# Altium footprint library TIDA-01415.PcbLib: 34 footprints (part 1 of 3)
Each footprint in its own frame and in the unit in brackets; x right, y up, seen from the top. Pads: shape width x height; smd on the part's side, far side on the other; paste and mask are expansions set on the pad; w line width, h text height; cw(c..) or ccw(c..) is an arc to the next point about the centre after c.
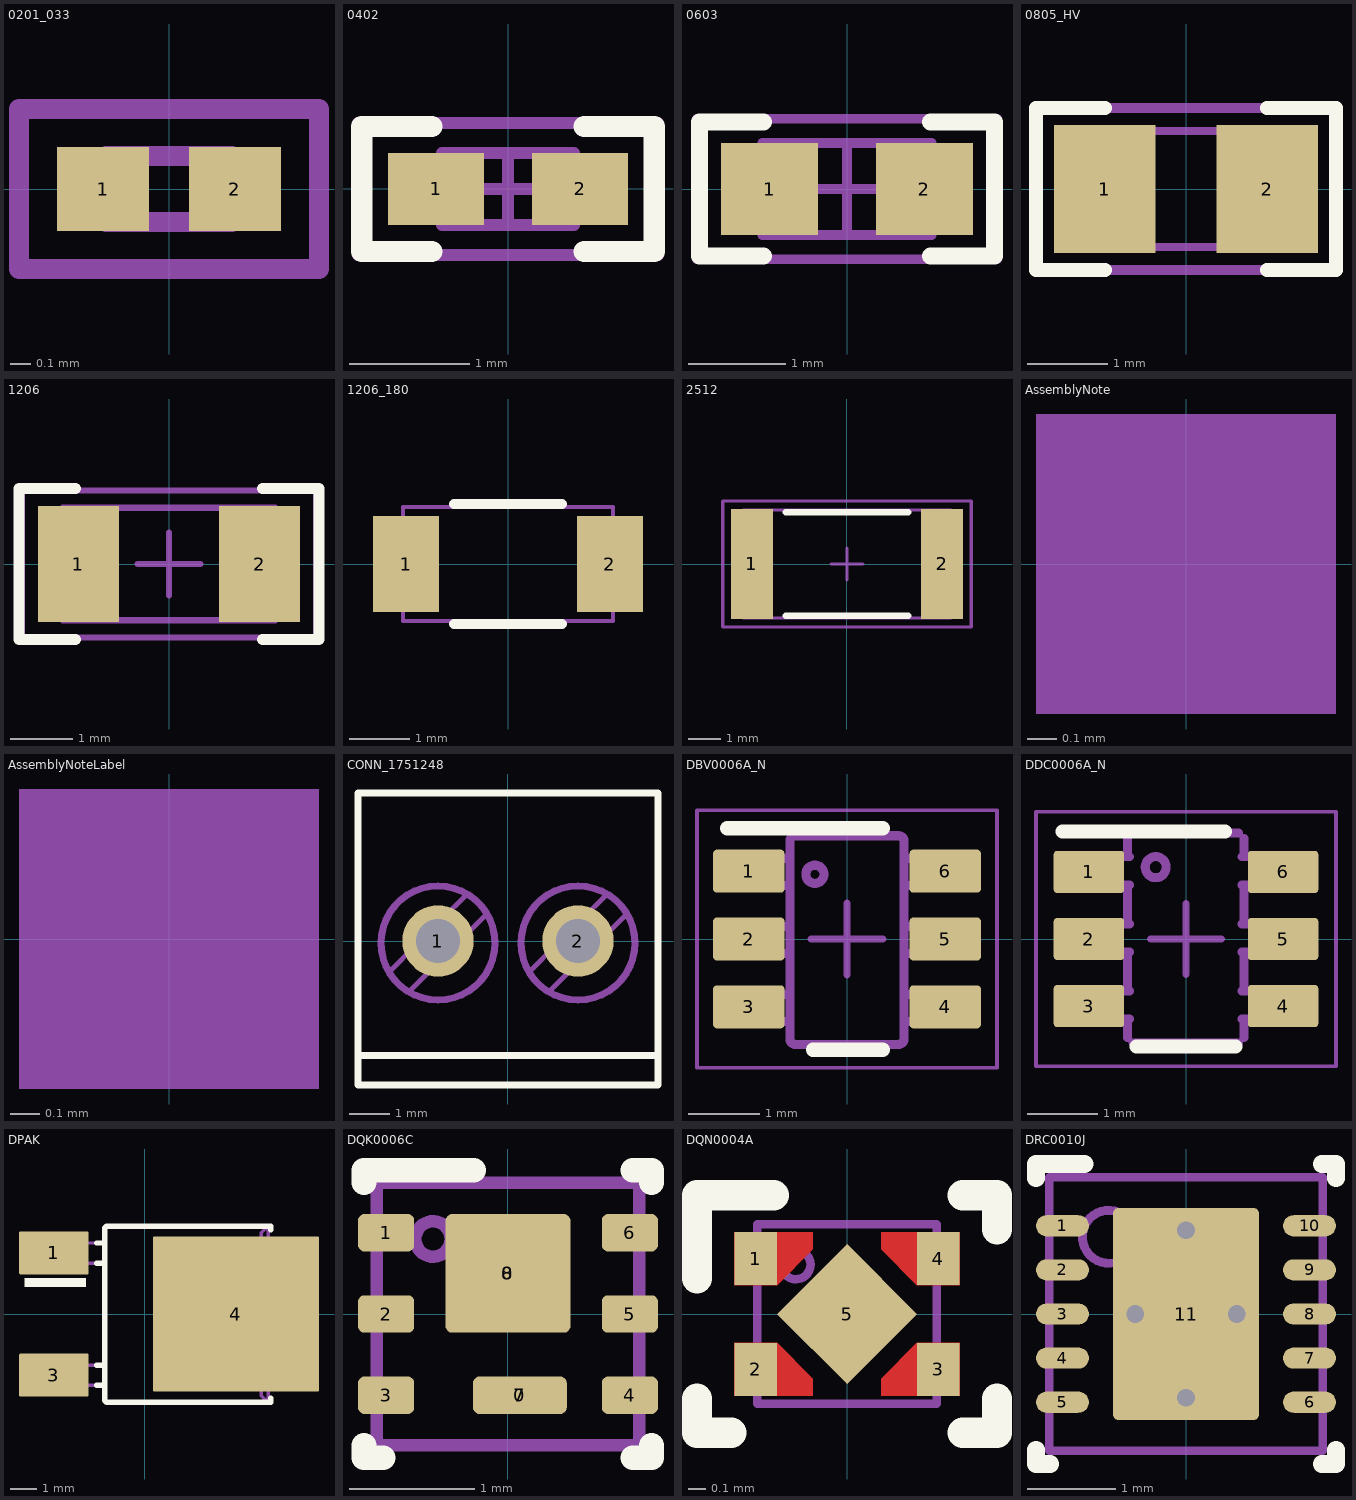
[diagram p0: the footprints below, top view; thin cyan lines are the x and y axes]

## 0201_033 [mm] "SMD, 2-Leads, Height 0.33mm"
height 0.33
pads (2):
  rect 0.46x0.42 smd mask+0.048: 1(-0.33,0) 2(0.33,0)
Mechanical 5:
  lines w0.1: -0.75,-0.4 -0.75,0.4 0.75,0.4 0.75,-0.4 -0.75,-0.4
  text ".Designator" at 2.339,0.814 h0.76
Mechanical 13:
  lines w0.1: -0.215,-0.165 -0.215,0.165 ; 0.215,-0.165 0.215,0.165 ; -0.315,-0.165 0.315,-0.165 0.315,0.165 -0.315,0.165 -0.315,-0.165
3D body: height 0.33, standoff 0, extent 0.216,-0.164 0.314,0.164
3D body: height 0.33, standoff 0, extent -0.214,-0.164 0.214,0.164
3D body: height 0.33, standoff 0, extent -0.314,-0.164 -0.216,0.164

## 0402 [mm] "0402 from SM-752 data"
height 0.6
pads (2):
  rect 0.8x0.6 smd: 1(-0.6,0) 2(0.6,0)
Top Overlay:
  lines w0.178: -0.635,-0.521 -1.219,-0.521 -1.219,0.521 -0.635,0.521 ; 0.635,-0.521 1.219,-0.521 1.219,0.521 0.635,0.521
Mechanical 5:
  lines w0.1: -1.25,-0.55 -1.25,0.55 1.25,0.55 1.25,-0.55 -1.25,-0.55
  text ".Designator" at 1.016,0.381 h0.76
Mechanical 13:
  lines w0.1: -0.35,-0.3 -0.35,0.3 ; 0.35,-0.3 0.35,0.3 ; -0.55,-0.3 0.55,-0.3 0.55,0.3 -0.55,0.3 -0.55,-0.3
Mechanical 15:
  lines w0.1: -0.3,0 0.3,0 ; 0,-0.3 0,0.3 ; -1.25,-0.55 1.25,-0.55 1.25,0.55 -1.25,0.55 -1.25,-0.55
3D body: height 0.6, standoff 0, extent 0.351,-0.299 0.549,0.299
3D body: height 0.6, standoff 0, extent -0.349,-0.299 0.349,0.299
3D body: height 0.6, standoff 0, extent -0.549,-0.299 -0.351,0.299

## 0603 [mm] "0603 from SM-752 data"
height 1
pads (2):
  rect 1x0.95 smd: 1(-0.8,0) 2(0.8,0)
Top Overlay:
  lines w0.178: -0.864,-0.691 -1.524,-0.691 -1.524,0.693 -0.864,0.693 ; 0.864,-0.691 1.524,-0.691 1.524,0.693 0.864,0.693
Mechanical 5:
  lines w0.1: -1.55,-0.725 1.55,-0.725 1.55,0.725 -1.55,0.725 -1.55,-0.725
  text ".Designator" at 0.9,0.37 h0.76
Mechanical 13:
  lines w0.1: -0.55,-0.475 -0.55,0.475 ; 0.55,-0.475 0.55,0.475 ; -0.875,-0.475 -0.875,0.475 0.875,0.475 0.875,-0.475 -0.875,-0.475
Mechanical 15:
  lines w0.1: -0.475,0 0.475,0 ; 0,-0.475 0,0.475 ; -1.55,-0.725 -1.55,0.725 1.55,0.725 1.55,-0.725 -1.55,-0.725
3D body: height 1, standoff 0, extent 0.551,-0.474 0.874,0.474
3D body: height 1, standoff 0, extent -0.549,-0.474 0.549,0.474
3D body: height 1, standoff 0, extent -0.874,-0.474 -0.551,0.474

## 0805_HV [mil] "0805 with 30mil clearance between pads"
height 57.09
pads (2):
  rect 50x63 smd: 1(-40,0) 2(40,0)
Top Overlay:
  lines w7: -40,-40 -74,-40 -74,0 -74,40 -40,40 ; 40,-40 74,-40 74,0 74,40 40,40
Mechanical 5:
  lines w5: -74,-40 74,-40 74,40 -74,40 -74,-40
  text ".Designator" at 35,16 h30
Mechanical 13:
  lines w3.94: -25.59,-28.54 -25.59,28.54 ; 25.59,-28.54 25.59,28.54 ; -43.31,-28.54 43.31,-28.54 43.31,28.54 -43.31,28.54 -43.31,-28.54
3D body: height 57.09, standoff 0, extent -43.29,-28.52 -25.61,28.52
3D body: height 57.09, standoff 0, extent -25.57,-28.52 25.57,28.52
3D body: height 57.09, standoff 0, extent 25.61,-28.52 43.29,28.52

## 1206 [mm] "1206 from SM-752 data"
height 1.35
pads (2):
  rect 1.3x1.85 smd: 1(-1.45,0) 2(1.45,0)
Top Overlay:
  lines w0.178: -1.5,-1.21 -2.4,-1.21 -2.4,1.21 -1.5,1.21 ; 1.5,-1.21 2.4,-1.21 2.4,1.21 1.5,1.21
Mechanical 5:
  lines w0.1: -1.7,-0.9 -1.7,0.9 1.7,0.9 1.7,-0.9 -1.7,-0.9
  text ".Designator" at -0.991,-0.406 h0.76
Mechanical 13:
  lines w0.1: -1.2,-0.9 -1.2,0.9 ; 1.2,-0.9 1.2,0.9 ; -1.7,-0.9 -1.7,0.9 1.7,0.9 1.7,-0.9 -1.7,-0.9
Mechanical 15:
  lines w0.1: -0.5,0 0.5,0 ; 0,-0.5 0,0.5 ; -2.35,-1.175 -2.35,1.175 2.35,1.175 2.35,-1.175 -2.35,-1.175
3D body: height 1.35, standoff 0, extent 1.201,-0.899 1.699,0.899
3D body: height 1.35, standoff 0, extent -1.199,-0.899 1.199,0.899
3D body: height 1.35, standoff 0, extent -1.699,-0.899 -1.201,0.899

## 1206_180 [mm] "1206_180"
height 1.8
pads (2):
  rect 1.1x1.6 smd: 1(-1.7,0) 2(1.7,0)
Top Overlay:
  lines w0.17: -0.9,-1 0.9,-1 ; -0.9,1 0.9,1
Mechanical 5:
  lines w0.07: -1.75,-0.95 -1.75,0.95 1.75,0.95 1.75,-0.95 -1.75,-0.95
  text ".Designator" at 0.953,0.381 h0.76
3D body: height 1.8, standoff 0, extent 1.301,-0.949 1.749,0.949
3D body: height 1.8, standoff 0, extent -1.299,-0.949 1.299,0.949
3D body: height 1.8, standoff 0, extent -1.749,-0.949 -1.301,0.949

## 2512 [mm] "Chip Resistor, Body 6.3x3.2mm, IPC Medium Density"
height 0.71
pads (2):
  rect 1.3x3.4 smd: 1(-2.95,0) 2(2.95,0)
Top Overlay:
  lines w0.2: -1.9,-1.6 1.9,-1.6 ; -1.9,1.6 1.9,1.6
Mechanical 5:
  lines w0.1: -3.225,-1.675 3.225,-1.675 3.225,1.675 -3.225,1.675 -3.225,-1.675
  text ".Designator" at -0.471,-0.5 h0.76
Mechanical 13:
  lines w0.1: -2.463,-1.675 -2.463,1.675 ; 2.463,-1.675 2.463,1.675 ; -3.225,-1.675 3.225,-1.675 3.225,1.675 -3.225,1.675 -3.225,-1.675
Mechanical 15:
  lines w0.1: -0.5,0 0.5,0 ; 0,-0.5 0,0.5 ; -3.85,-1.95 3.85,-1.95 3.85,1.95 -3.85,1.95 -3.85,-1.95
3D body: height 0.71, standoff 0, extent -3.224,-1.674 -2.464,1.674
3D body: height 0.71, standoff 0, extent -2.462,-1.674 2.462,1.674
3D body: height 0.71, standoff 0, extent 2.464,-1.674 3.224,1.674

## AssemblyNote [mm] "Assembly Note"
height 2.3
Mechanical 5:
  rectangle: -0.508,-0.508 0.508,0.508
  text ".Designator" at -4.191,-0.508 h0.76
  text ".Comment" at 1.143,-0.508 h0.76

## AssemblyNoteLabel [mm] "Assembly Note for PCB Labels"
height 2.3
Mechanical 5:
  rectangle: -0.508,-0.508 0.508,0.508
  text "Install label in silkscreened box after final wash.  Text shall be 8 pt font.  Text shall be per the Label Table in the PDF schematic." at 1.143,-0.508 h0.76
  text ".Designator" at -4.191,-0.508 h0.76

## CONN_1751248 [mm] "Phoenix Contact"
height 8.5
pads (2):
  round 1.778 hole 1.1: 1(-1.75,0) 2(1.75,0)
Top Overlay:
  lines w0.178: -3.75,-2.861 3.75,-2.861 ; -3.75,-2.861 -3.75,-3.3 -3.75,-3.6 3.75,-3.6 3.75,-3.3 3.75,-2.861 ; -3.75,-2.861 -3.75,-2.049 -3.75,-1.566 -3.75,1.487 -3.75,1.962 -3.75,3.7 3.75,3.7 3.75,1.962 3.75,1.487 3.75,-1.566 3.75,-2.049 3.75,-2.861
Mechanical 5:
  lines w0.127: -3.75,-2.861 -3.75,-2.049 -3.75,-1.566 -3.75,1.487 -3.75,1.962 -3.75,3.7 3.75,3.7 3.75,1.962 3.75,1.487 3.75,-1.566 3.75,-2.049 3.75,-2.861 ; -3.75,-2.861 -3.75,-3.3 -3.75,-3.6 3.75,-3.6 3.75,-3.3 3.75,-2.861 ; -3.75,-2.861 3.75,-2.861 ; -2.956,-0.761 ccw(c-1.75,-0.05) -2.461,-1.256 ; -2.956,-0.761 cw(c-1.75,-0.05) -1.75,1.35 cw(c-1.75,-0.05) -1.039,1.156 ; -2.956,-0.761 -2.291,-0.096 -1.75,0.445 -1.653,0.542 -1.039,1.156 ; -2.461,-1.256 ccw(c-1.75,-0.05) -1.75,-1.45 ccw(c-1.75,-0.05) -0.544,0.661 ; -2.461,-1.256 -1.755,-0.55 -1.75,-0.545 -1.2,0.005 -0.544,0.661 ; -1.039,1.156 cw(c-1.75,-0.05) -0.544,0.661 ; 0.544,-0.761 cw(c1.75,-0.05) 1.75,1.35 cw(c1.75,-0.05) 2.461,1.156 ; 0.544,-0.761 ccw(c1.75,-0.05) 1.039,-1.256 ; 0.544,-0.761 1.209,-0.096 1.75,0.445 1.847,0.542 2.461,1.156 ; 1.039,-1.256 ccw(c1.75,-0.05) 1.75,-1.45 ccw(c1.75,-0.05) 2.956,0.661 ; 1.039,-1.256 1.745,-0.55 1.75,-0.545 2.3,0.005 2.956,0.661 ; 2.461,1.156 cw(c1.75,-0.05) 2.956,0.661 ; -1.75,-1.5 cw(c-1.75,-0.05) -1.75,1.4 cw(c-1.75,-0.05) -1.75,-1.5 ; 1.75,-1.5 cw(c1.75,-0.05) 1.75,1.4 cw(c1.75,-0.05) 1.75,-1.5
  text ".Designator" at 0.122,1.716 h0.76
3D body "Phoenix_1751248.stp": height 8.52, standoff -3.48, extent -3.75,-3.6 3.75,3.7

## DBV0006A_N [mm] "SOT23, 6-Leads, Body 2.9x1.6mm, Pitch 0.95mm, Lead Span 2.8mm, IPC Medium Density"
height 1.45
pads (6):
  rrect17% 1x0.6 smd: 1(-1.375,0.95) 2(-1.375,0) 3(-1.375,-0.95) 4(1.375,-0.95) 5(1.375,0) 6(1.375,0.95)
Top Overlay:
  lines w0.2: -1.675,1.55 0.5,1.55 ; -0.475,-1.55 0.5,-1.55
Mechanical 5:
  lines w0.127: 0.724,-1.475 ccw(c0.723,-1.399) 0.8,-1.399 0.8,1.37 ccw(c0.723,1.37) 0.724,1.446 ; 0.723,-1.475 0.724,-1.475 ; 0.723,-1.475 -0.724,-1.475 -0.725,-1.475 cw(c-0.724,-1.399) -0.801,-1.399 -0.801,1.37 cw(c-0.724,1.37) -0.725,1.446 -0.724,1.446 0.723,1.446 ; 0.723,1.446 0.724,1.446 ; -1.423,-1.154 -1.206,-1.154 -1.113,-1.154 -1.081,-1.154 -0.828,-1.154 -0.801,-1.154 -0.801,-0.78 -0.828,-0.78 -1.081,-0.78 -1.113,-0.78 -1.206,-0.78 -1.423,-0.78 -1.423,-1.154 ; -1.423,-0.202 -1.206,-0.202 -1.113,-0.202 -1.081,-0.202 -0.828,-0.202 -0.801,-0.202 -0.801,0.173 -0.828,0.173 -1.081,0.173 -1.113,0.173 -1.206,0.173 -1.423,0.173 -1.423,-0.202 ; -1.423,0.751 -1.206,0.751 -1.113,0.751 -1.081,0.751 -0.828,0.751 -0.801,0.751 -0.801,1.125 -0.828,1.125 -1.081,1.125 -1.113,1.125 -1.206,1.125 -1.423,1.125 -1.423,0.751 ; -0.577,0.906 cw(c-0.45,0.906) -0.323,0.906 cw(c-0.45,0.906) -0.577,0.906 ; 0.8,-1.154 0.827,-1.154 1.08,-1.154 1.112,-1.154 1.205,-1.154 1.422,-1.154 1.422,-0.78 1.205,-0.78 1.112,-0.78 1.08,-0.78 0.827,-0.78 0.8,-0.78 0.8,-1.154 ; 0.8,-0.202 0.827,-0.202 1.08,-0.202 1.112,-0.202 1.205,-0.202 1.422,-0.202 1.422,0.173 1.205,0.173 1.112,0.173 1.08,0.173 0.827,0.173 0.8,0.173 0.8,-0.202 ; 0.8,0.751 0.827,0.751 1.08,0.751 1.112,0.751 1.205,0.751 1.422,0.751 1.422,1.125 1.205,1.125 1.112,1.125 1.08,1.125 0.827,1.125 0.8,1.125 0.8,0.751
  text ".Designator" at -0.395,0.171 h0.76
Mechanical 15:
  lines w0.05: -2.1,-1.8 2.1,-1.8 2.1,1.8 -2.1,1.8 -2.1,-1.8
  lines w0.1: -0.5,0 0.5,0 ; 0,-0.5 0,0.5
3D body "DBV0006A.stp": height 1.12, standoff 0, extent -1.422,-1.461 1.423,1.46

## DDC0006A_N [mm]
height 1.1
pads (6):
  rrect17% 1x0.6 smd: 1(-1.375,0.95) 2(-1.375,0) 3(-1.375,-0.95) 4(1.375,-0.95) 5(1.375,0) 6(1.375,0.95)
Top Overlay:
  lines w0.2: -1.75,1.525 0.55,1.525 ; -0.7,-1.524 0.7,-1.524
Mechanical 5:
  lines w0.127: -0.828,-1.395 -0.828,-1.392 -0.828,-1.135 ; -0.828,-0.735 -0.828,-0.185 ; -0.828,0.215 -0.828,0.765 ; -0.828,1.165 -0.828,1.422 -0.828,1.426 ; -0.801,-1.135 -0.903,-1.135 -1.128,-1.135 -1.159,-1.135 -1.251,-1.135 -1.437,-1.135 -1.437,-0.735 -1.251,-0.735 -1.159,-0.735 -1.128,-0.735 -0.903,-0.735 -0.801,-0.735 ; -0.801,-0.185 -0.903,-0.185 -1.128,-0.185 -1.159,-0.185 -1.251,-0.185 -1.437,-0.185 -1.437,0.215 -1.251,0.215 -1.159,0.215 -1.128,0.215 -0.903,0.215 -0.801,0.215 ; -0.801,0.765 -0.903,0.765 -1.128,0.765 -1.159,0.765 -1.251,0.765 -1.437,0.765 -1.437,1.165 -1.251,1.165 -1.159,1.165 -1.128,1.165 -0.903,1.165 -0.801,1.165 ; -0.754,-1.47 -0.75,-1.47 0.743,-1.47 0.747,-1.47 ; -0.754,1.5 -0.75,1.5 0.743,1.5 0.747,1.5 ; 0.795,-1.135 0.896,-1.135 1.122,-1.135 1.152,-1.135 1.245,-1.135 1.431,-1.135 1.431,-0.735 1.245,-0.735 1.152,-0.735 1.122,-0.735 0.896,-0.735 0.795,-0.735 ; 0.795,-0.185 0.896,-0.185 1.122,-0.185 1.152,-0.185 1.245,-0.185 1.431,-0.185 1.431,0.215 1.245,0.215 1.152,0.215 1.122,0.215 0.896,0.215 0.795,0.215 ; 0.795,0.765 0.896,0.765 1.122,0.765 1.152,0.765 1.245,0.765 1.431,0.765 1.431,1.165 1.245,1.165 1.152,1.165 1.122,1.165 0.896,1.165 0.795,1.165 ; 0.822,-1.395 0.822,-1.392 0.822,-1.135 ; 0.822,-0.735 0.822,-0.185 ; 0.822,0.215 0.822,0.765 ; 0.822,1.165 0.822,1.422 0.822,1.426 ; -0.578,1.018 ccw(c-0.43,1.018) -0.281,1.018 ccw(c-0.43,1.018) -0.578,1.018
  text ".Designator" at 0.356,-0.902 h0.76
Mechanical 15:
  lines w0.05: -2.125,-1.8 -2.125,1.8 2.125,1.8 2.125,-1.8 -2.125,-1.8
  lines w0.1: -0.5,0 0.5,0 ; 0,-0.5 0,0.5
3D body "DDC0006A.stp": height 0.92, standoff 0, extent -1.434,-1.485 1.434,1.485

## DPAK [mm] "D-PAK, 3-Pads, Body 6.22x6.73mm (max), TO-252AA using nominal STEP model"
height 2.39
pads (3):
  rrect6% 2.6x1.6 smd: 1(-3.4,2.28) 3(-3.4,-2.28)
  rrect2% 6.2x5.8 smd paste-2.9: 4(3.4,0)
Top Overlay:
  rectangle: -4.5,1 -2.2,1.35
  lines w0.2: -1.8,1.9 -1.5,1.9 ; -1.8,2.65 -1.5,2.65 ; 4.7,-3.3 -1.429,-3.3 -1.5,-3.229 -1.5,-3.157 -1.5,-2.665 ; 4.7,-3.28 4.7,-3.15 ; 4.7,3.15 4.7,3.28 -1.429,3.28 -1.5,3.209 -1.5,3.137 -1.5,-1.915 ; -1.8,-2.665 -1.5,-2.665 ; -1.8,-2.665 -1.5,-2.665 ; -1.8,-2.665 -1.5,-2.665 ; -1.8,-1.915 -1.5,-1.915 ; -1.8,-1.915 -1.5,-1.915 ; -1.8,-1.915 -1.5,-1.915 ; -1.5,-2.665 -1.5,-1.915 ; -1.5,-2.665 -1.5,-1.915 ; -1.5,-2.665 -1.5,-1.915
Top Paste:
  rectangle: 0.4,1.625 1.675,2.8
  rectangle: 1.975,1.625 3.25,2.8
  rectangle: 3.55,1.625 4.825,2.8
  rectangle: 5.125,1.625 6.4,2.8
  rectangle: 0.4,0.15 1.675,1.325
  rectangle: 1.975,0.15 3.25,1.325
  rectangle: 3.55,0.15 4.825,1.325
  rectangle: 5.125,0.15 6.4,1.325
  rectangle: 0.4,-1.325 1.675,-0.15
  rectangle: 1.975,-1.325 3.25,-0.15
  rectangle: 3.55,-1.325 4.825,-0.15
  rectangle: 5.125,-1.325 6.4,-0.15
  rectangle: 5.125,-2.8 6.4,-1.625
  rectangle: 3.55,-2.8 4.825,-1.625
  rectangle: 1.975,-2.8 3.25,-1.625
  rectangle: 0.4,-2.8 1.675,-1.625
Mechanical 5:
  lines w0.127: -1.5,1.9 -2.757,1.9 -3.157,1.9 ; -1.5,2.65 -2.757,2.65 -3.157,2.65 ; -3.899,-2.665 -3.357,-2.665 ; -3.899,-2.665 -3.899,-1.915 ; -3.899,-2.665 -3.357,-2.665 ; -3.899,-2.665 -3.899,-1.915 ; -3.899,-2.665 -3.357,-2.665 ; -3.899,-2.665 -3.899,-1.915 ; -3.899,-1.915 -3.357,-1.915 ; -3.899,-1.915 -3.357,-1.915 ; -3.899,-1.915 -3.357,-1.915 ; -3.357,-2.665 -3.157,-2.665 ; -3.357,-2.665 -3.157,-2.665 ; -3.357,-2.665 -3.157,-2.665 ; -3.357,-1.915 -3.157,-1.915 ; -3.357,-1.915 -3.157,-1.915 ; -3.357,-1.915 -3.157,-1.915 ; -3.157,-2.665 -3.157,-1.915 ; -3.157,-2.665 -2.757,-2.665 ; -3.157,-2.665 -3.157,-1.915 ; -3.157,-2.665 -2.757,-2.665 ; -3.157,-2.665 -3.157,-1.915 ; -3.157,-2.665 -2.757,-2.665 ; -3.157,-1.915 -2.757,-1.915 ; -3.157,-1.915 -2.757,-1.915 ; -3.157,-1.915 -2.757,-1.915 ; -3.157,1.9 -3.357,1.9 -3.899,1.9 -3.899,2.65 -3.357,2.65 -3.157,2.65 ; -3.157,1.9 -3.157,2.65 ; -2.757,-2.665 -1.5,-2.665 ; -2.757,-2.665 -1.5,-2.665 ; -2.757,-2.665 -1.5,-2.665 ; -2.757,-1.915 -1.5,-1.915 ; -2.757,-1.915 -1.5,-1.915 ; -2.757,-1.915 -1.5,-1.915 ; -1.5,-2.665 -1.5,-1.915 ; -1.5,-2.665 -1.5,-1.915 ; -1.5,-2.665 -1.5,-1.915 ; -1.5,-2.665 -1.5,-3.157 -1.5,-3.229 -1.429,-3.3 4.6,-3.3 ; -1.5,-1.915 -1.5,3.137 -1.5,3.209 -1.429,3.28 4.6,3.28 ; 4.6,-3.3 4.6,-2.69 5.8,-2.69 5.8,-2.01 5.308,-2.01 5.308,1.99 5.8,1.99 5.8,2.67 4.6,2.67 4.6,3.28 ; 4.6,-3.3 4.348,-3.048 4.348,3.028 4.6,3.28
  text ".Designator" at 1.598,-0.914 h1.02
3D body "td03b.stp": height 2.48, standoff 0.01, extent -3.856,-3.29 5.843,3.29

## DQK0006C [mm] "WSON"
height 0.8
pads (10):
  rrect50% 0.9x0.86 on Top Paste: 0(0,0.325)
  rrect50% 0.7x0.29 on Top Paste: 0(0.095,-0.65)
  rrect33% 0.45x0.3 smd: 1(-0.975,0.65) 2(-0.975,0) 3(-0.975,-0.65) 4(0.975,-0.65) 5(0.975,0) 6(0.975,0.65)
  rrect33% 0.75x0.3 smd paste-0.15: 7(0.095,-0.65)
  rrect11% 1x0.95 smd paste-0.5: 8(0,0.325)
Top Overlay:
  lines w0.2: -1.15,-1.05 -1.15,-1.15 -1,-1.15 ; -1.15,1.05 -1.15,1.15 -0.275,1.15 ; 1,-1.15 1.15,-1.15 1.15,-1.05 ; 1,1.15 1.15,1.15 1.15,1.05
Mechanical 5:
  circle w0.1: c-0.6,0.6 r0.141
  lines w0.1: -1.05,-1.05 -1.05,1.05 1.05,1.05 1.05,-1.05 -1.05,-1.05
  text ".Designator" at -0.165,0.574 h0.76
3D body "DQK0006C.stp": height 0.82, standoff 0, extent -1,-1 1,1

## DQN0004A [mm] "SON, 0.65mm pitch"
height 0.4
pads (5):
  rect 0.25x0.31 smd paste-1 mask-0.31: 1(-0.535,0.325) 2(-0.535,-0.325) 3(0.535,-0.325) 4(0.535,0.325)
  rect 0.58x0.58 smd rot 45 paste-0.065 mask-0.05: 5(0,0)
Top Layer:
  region: -0.66,-0.48 -0.2,-0.48 -0.2,-0.379 -0.409,-0.17 -0.66,-0.17
  region: 0.66,-0.48 0.2,-0.48 0.2,-0.379 0.409,-0.17 0.66,-0.17
  region: 0.66,0.48 0.2,0.48 0.2,0.379 0.409,0.17 0.66,0.17
  region: -0.66,0.48 -0.2,0.48 -0.2,0.379 -0.409,0.17 -0.66,0.17
Top Overlay:
  lines w0.178: -0.88,-0.496 -0.88,-0.696 -0.68,-0.696 ; -0.88,0.21 -0.88,0.696 -0.43,0.696 ; 0.68,-0.696 0.88,-0.696 0.88,-0.496 ; 0.68,0.696 0.88,0.696 0.88,0.496
Top Paste:
  region: -0.65,0.43 -0.25,0.43 -0.25,0.4 -0.43,0.22 -0.65,0.22
  region: 0.65,0.43 0.25,0.43 0.25,0.4 0.43,0.22 0.65,0.22
  region: 0.65,-0.43 0.25,-0.43 0.25,-0.4 0.43,-0.22 0.65,-0.22
  region: -0.65,-0.43 -0.25,-0.43 -0.25,-0.4 -0.43,-0.22 -0.65,-0.22
Mechanical 5:
  circle w0.05: c-0.3,0.29 r0.086
  lines w0.05: -0.525,-0.525 0.525,-0.525 0.525,0.525 -0.525,0.525 -0.525,-0.525
  text ".Designator" at 0.508,-1.067 h0.76
3D body: height 0.4, standoff 0, extent -0.525,-0.525 0.525,0.525
3D body: height 0.42, standoff 0.2, extent -0.386,0.204 -0.214,0.376

## DRC0010J [mm] "SON, 10-Leads, Body 3x3mm, Pitch 0.5mm, Thermal Pad 2.4x1.65mm, TI Recommended"
height 1
pads (11):
  rrect100% 0.6x0.24 smd: 1(-1.4,1) 2(-1.4,0.5) 3(-1.4,0) 4(-1.4,-0.5) 5(-1.4,-1) 6(1.4,-1) 7(1.4,-0.5) 8(1.4,0) 9(1.4,0.5) 10(1.4,1)
  rrect6% 1.65x2.4 smd paste-0.825: 11(0,0)
via 0,-0.95 diameter 0.5 hole 0.2
via 0,0.95 diameter 0.5 hole 0.2
via 0.575,0 diameter 0.5 hole 0.2
via -0.575,0 diameter 0.5 hole 0.2
Top Overlay:
  lines w0.2: -1.7,-1.54 -1.7,-1.7 -1.54,-1.7 ; -1.7,1.54 -1.7,1.7 -1.15,1.7 ; 1.54,-1.7 1.7,-1.7 1.7,-1.54 ; 1.54,1.7 1.7,1.7 1.7,1.54
Top Paste:
  rectangle: -0.75,-1.16 0.75,-0.1
  rectangle: -0.75,0.1 0.75,1.16
Mechanical 5:
  circle w0.1: c-0.875,0.875 r0.3
  lines w0.1: -1.55,-1.55 -1.55,1.55 1.55,1.55 1.55,-1.55 -1.55,-1.55
  text ".Designator" at -0.737,-0.635 h0.76
3D body "DRC0010J.stp": height 0.77, standoff 0, extent -1.5,-1.5 1.5,1.5